# Altium footprint library 杂项库.PcbLib: 585 footprints (part 24 of 37)
Each footprint in its own frame and in the unit in brackets; x right, y up, seen from the top. Pads: shape width x height; smd on the part's side, far side on the other; paste and mask are expansions set on the pad; w line width, h text height; cw(c..) or ccw(c..) is an arc to the next point about the centre after c.
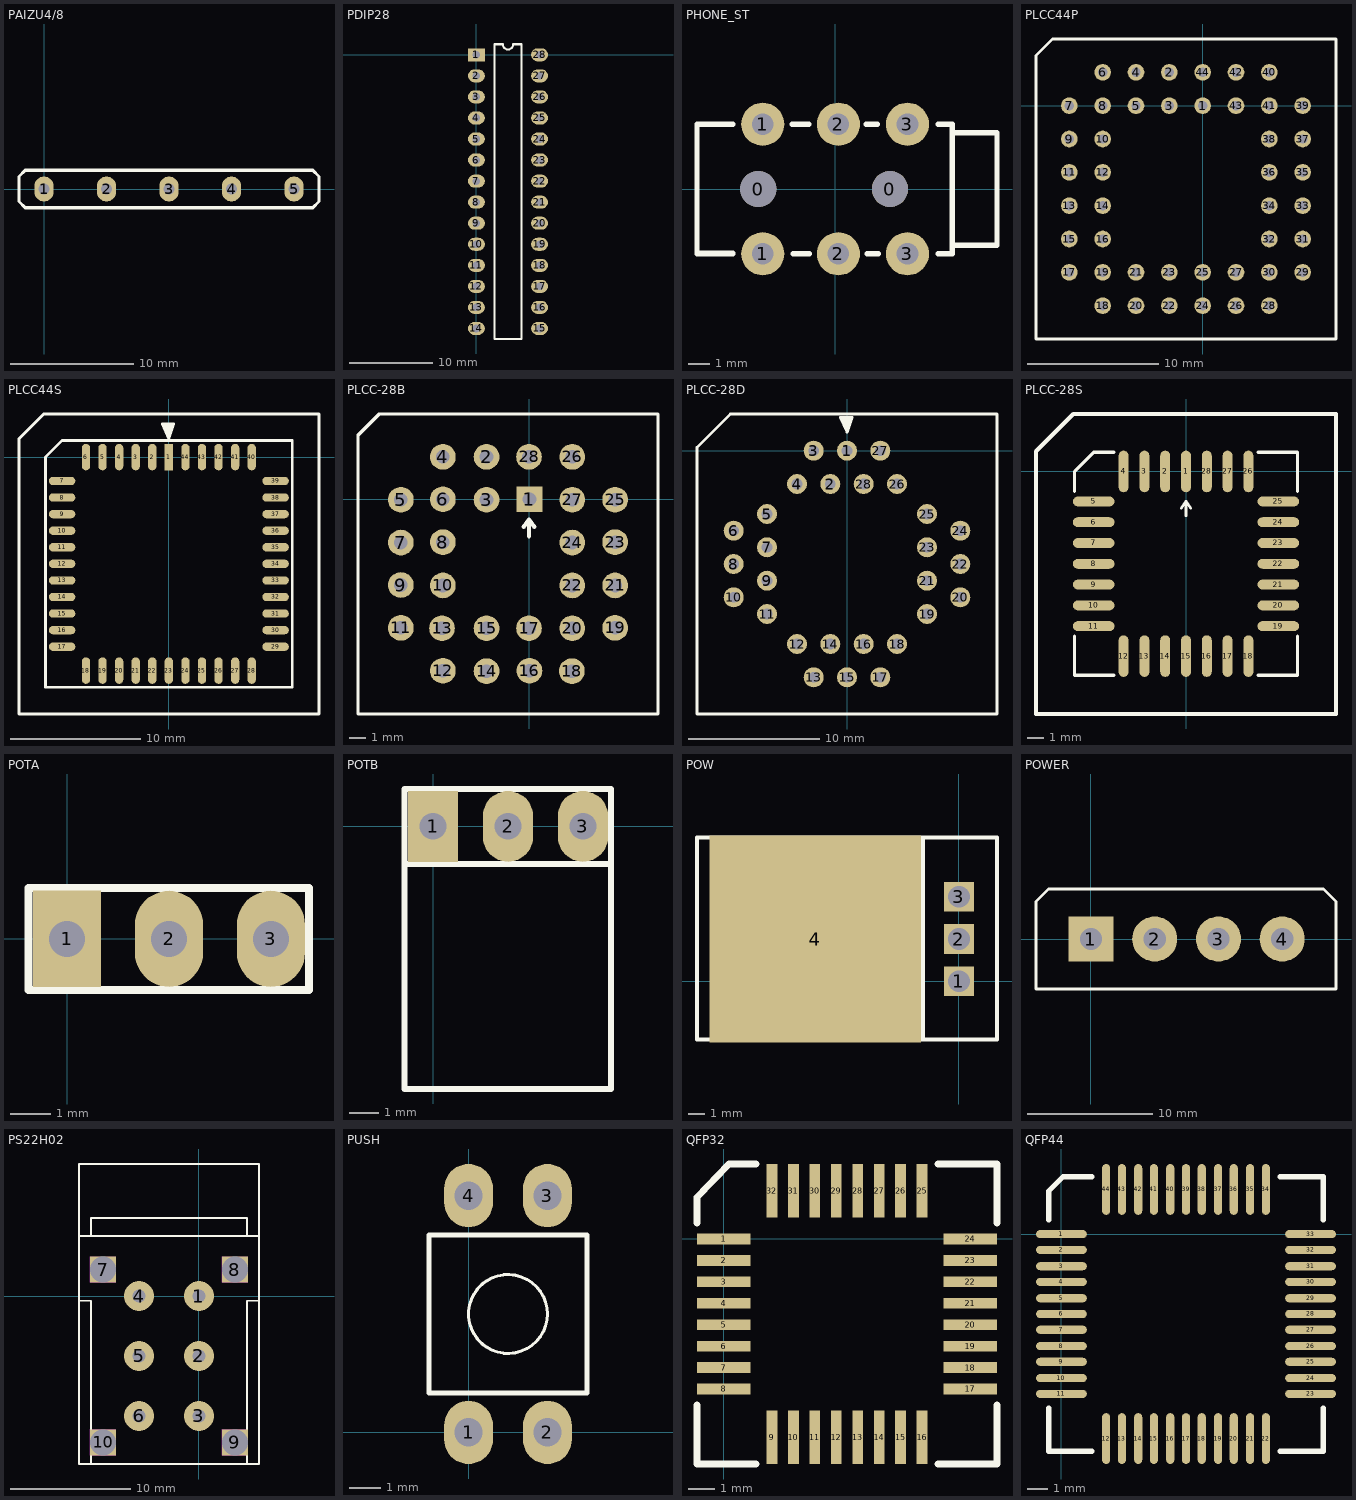
[diagram p23: the footprints below, top view; thin cyan lines are the x and y axes]

## PAIZU4/8 [mil]
pads (5):
  oval 62x80 hole 36: 1(0,0) 2(200,0) 3(400,0) 4(600,0) 5(800,0)
Top Overlay:
  lines w10: -80,-40 -80,40 -60,60 -40,60 740,60 860,60 880,40 880,-40 860,-60 740,-60 -60,-60 -80,-40

## PDIP28 [mil]
pads (28):
  rect 80x62 hole 36: 1(0,0)
  oval 80x62 hole 36: 2(0,-100) 3(0,-200) 4(0,-300) 5(0,-400) 6(0,-500) 7(0,-600) 8(0,-700) 9(0,-800) 10(0,-900) 11(0,-1000) 12(0,-1100) 13(0,-1200) 14(0,-1300) 15(300,-1300) 16(300,-1200) 17(300,-1100) 18(300,-1000) 19(300,-900) 20(300,-800) 21(300,-700) 22(300,-600) 23(300,-500) 24(300,-400) 25(300,-300) 26(300,-200) 27(300,-100) 28(300,0)
Top Overlay:
  lines w10: 85,-1350 85,50 125,50 ccw(c150,50) 175,50 215,50 215,-1350 85,-1350

## PHONE_ST [mm]
pads (8):
  round 1.676 hole 1.676: 0(-3.556,0) 0(2.54,0)
  round 2 hole 1: 1(-3.35,-3) 1(-3.35,3) 2(0.15,-3) 2(0.15,3) 3(3.35,-3) 3(3.35,3)
Top Overlay:
  lines w0.254: -6.393,-2.969 -4.742,-2.969 ; -4.742,-3.007 -6.393,-3.007 -6.393,3 -4.742,3 ; -1.986,3 -1.224,3 ; -1.948,-3.007 -1.186,-3.007 ; 1.443,3 1.951,3 ; 1.481,-3.007 1.989,-3.007 ; 4.783,-3.007 5.33,-3.007 ; 4.783,3 5.418,3 5.418,-3.007 ; 5.418,-2.6 7.493,-2.6 7.493,2.6 5.418,2.6

## PLCC44P [mil]
pads (44):
  round 50 hole 28: 1(0,0) 2(-100,100) 3(-100,0) 4(-200,100) 5(-200,0) 6(-300,100) 7(-400,0) 8(-300,0) 9(-400,-100) 10(-300,-100) 11(-400,-200) 12(-300,-200) 13(-400,-300) 14(-300,-300) 15(-400,-400) 16(-300,-400) 17(-400,-500) 18(-300,-600) 19(-300,-500) 20(-200,-600) 21(-200,-500) 22(-100,-600) 23(-100,-500) 24(0,-600) 25(0,-500) 26(100,-600) 27(100,-500) 28(200,-600) 29(300,-500) 30(200,-500) 31(300,-400) 32(200,-400) 33(300,-300) 34(200,-300) 35(300,-200) 36(200,-200) 37(300,-100) 38(200,-100) 39(300,0) 40(200,100) 41(200,0) 42(100,100) 43(100,0) 44(0,100)
Top Overlay:
  lines w8: -500,-700 400,-700 400,200 -450,200 -500,150 -500,-700

## PLCC44S [mil]
pads (44):
  rect 25x80 smd: 1(0,0)
  oval 25x80 smd: 2(-50,0) 3(-100,0) 4(-150,0) 5(-200,0) 6(-250,0) 18(-250,-644) 19(-200,-644) 20(-150,-644) 21(-100,-644) 22(-50,-644) 23(0,-644) 24(50,-644) 25(100,-644) 26(150,-644) 27(200,-644) 28(250,-644) 40(250,0) 41(200,0) 42(150,0) 43(100,0) 44(50,0)
  oval 80x25 smd: 7(-322,-72) 8(-322,-122) 9(-322,-172) 10(-322,-222) 11(-322,-272) 12(-322,-322) 13(-322,-372) 14(-322,-422) 15(-322,-472) 16(-322,-522) 17(-322,-572) 29(322,-572) 30(322,-522) 31(322,-472) 32(322,-422) 33(322,-372) 34(322,-322) 35(322,-272) 36(322,-222) 37(322,-172) 38(322,-122) 39(322,-72)
Top Overlay:
  lines w8: -15,100 0,70 ; -10,100 0,80 5,100 ; 0,100 0,70 ; 10,100 0,70 ; -372,-694 -372,0 -322,50 372,50 372,-694 -372,-694 ; -20,100 15,100 0,55 -20,100
  lines w10: -452,-775 453,-775 453,130 -377,130 -452,55 -452,-775

## PLCC-28B [mil]
pads (28):
  rect 60x60 hole 32: 1(0,0)
  round 60 hole 32: 2(-100,99) 3(-100,-1) 4(-202,99) 5(-300,-1) 6(-202,0) 7(-300,-101) 8(-202,-100) 9(-300,-200) 10(-202,-201) 11(-300,-300) 12(-202,-400) 13(-204,-301) 14(-100,-401) 15(-100,-301) 16(0,-400) 17(-1,-301) 18(99,-401) 19(200,-300) 20(100,-301) 21(200,-201) 22(100,-201) 23(200,-100) 24(100,-101) 25(200,-1) 26(100,99) 27(100,-1) 28(-1,99)
Top Overlay:
  lines w7.87: -400,-501 -400,149 -350,199 300,199 300,-501 -400,-501
  lines w10: -13,-64 -1,-48 ; -1,-86 -1,-48 ; 11,-64 -1,-48

## PLCC-28D [mil]
pads (28):
  round 60 hole 32: 1(0,0) 2(-50,-100) 3(-100,0) 4(-150,-100) 5(-240,-190) 6(-340,-240) 7(-240,-290) 8(-340,-340) 9(-240,-390) 10(-340,-440) 11(-240,-490) 12(-150,-580) 13(-100,-680) 14(-50,-580) 15(0,-680) 16(50,-580) 17(100,-680) 18(150,-580) 19(240,-490) 20(340,-440) 21(240,-390) 22(340,-340) 23(240,-290) 24(340,-240) 25(240,-190) 26(150,-100) 27(100,0) 28(50,-100)
Top Overlay:
  lines w8: -15,100 0,70 ; -10,100 0,80 5,100 ; 0,100 0,70 ; 10,100 0,70 ; -450,-790 -450,10 -350,110 450,110 450,-790 -450,-790 ; -20,100 15,100 0,55 -20,100

## PLCC-28S [mm]
pads (28):
  oval 0.6x2.5 smd: 1(0,0) 2(-1.25,0) 3(-2.5,0) 4(-3.75,0) 12(-3.75,-11.1) 13(-2.5,-11.1) 14(-1.25,-11.1) 15(0,-11.1) 16(1.25,-11.1) 17(2.5,-11.1) 18(3.75,-11.1) 26(3.75,0) 27(2.5,0) 28(1.25,0)
  oval 2.5x0.6 smd: 5(-5.55,-1.8) 6(-5.55,-3.05) 7(-5.55,-4.3) 8(-5.55,-5.55) 9(-5.55,-6.8) 10(-5.55,-8.05) 11(-5.55,-9.3) 19(5.55,-9.3) 20(5.55,-8.05) 21(5.55,-6.8) 22(5.55,-5.55) 23(5.55,-4.3) 24(5.55,-3.05) 25(5.55,-1.8)
Top Overlay:
  lines w0.154: -0.279,-2.21 0,-1.778 ; 0,-2.667 0,-1.778 ; 0.279,-2.21 0,-1.778
  lines w0.2: -6.7,-9.9 -6.7,-12.25 -4.35,-12.25 ; -6.7,-1.2 -6.7,0 -5.55,1.15 -4.35,1.15 ; 4.35,-12.25 6.7,-12.25 6.7,-9.9 ; 4.35,1.15 6.7,1.15 6.7,-1.2
  lines w0.254: -9.017,-14.58 9.017,-14.58 9.017,3.454 -6.782,3.454 -9.017,1.219 -9.017,-14.58

## POTA [mm]
pads (3):
  rect 1.7x2.4 hole 0.9: 1(0,0)
  oval 1.7x2.4 hole 0.9: 2(2.54,0) 3(5.08,0)
Top Overlay:
  lines w0.2: -0.965,-1.274 6.035,-1.274 6.035,1.266 -0.965,1.266 -0.965,-1.274

## POTB [mm]
pads (3):
  rect 1.7x2.4 hole 0.9: 1(0,0)
  oval 1.7x2.4 hole 0.9: 2(2.54,0) 3(5.08,0)
Top Overlay:
  lines w0.2: -0.965,-1.274 -0.965,1.266 6.035,1.266 6.035,-1.274 ; -0.965,-1.274 6.035,-1.274 ; -0.965,-1.274 -0.965,-3.814 -0.965,-6.354 -0.965,-8.894 6.035,-8.894 6.035,-6.354 6.035,-3.814 6.035,-1.274

## POW [mm]
pads (4):
  rect 1.8x1.8 hole 1.3: 1(0,0) 2(0,2.54) 3(0,5.08)
  rect 12.7x12.446 smd: 4(-8.636,2.54)
Top Overlay:
  lines w0.254: -2.159,-3.505 -2.159,8.636 ; -15.748,-3.505 -15.748,8.636 2.286,8.636 2.286,-3.505 -15.748,-3.505

## POWER [mm]
pads (4):
  rect 3.6x3.6 hole 1.778: 1(0,0)
  round 3.6 hole 1.778: 2(5.1,0) 3(10.2,0) 4(15.3,0)
Top Overlay:
  lines w0.254: -4.4,-4 19.6,-4 19.6,3 18.6,4 -2.4,4 -3.4,4 -4.4,3 -4.4,-4

## PS22H02 [mm]
pads (10):
  round 2.5 hole 1.05: 1(0,0) 2(0,-5) 3(0,-10) 4(-5,0) 5(-5,-5) 6(-5,-10)
  rect 2.15x2.15 hole 2.15: 7(-8,2.2) 8(3,2.2) 9(3,-12.2) 10(-8,-12.2)
Top Overlay:
  lines w0.15: -10,-0.4 -9,-0.4 -9,-14 ; -10,5 5,5 ; -9,5 -9,6.5 4,6.5 4,5 ; 4,-14 4,-0.4 5,-0.4 ; -10,-14 -10,11 5,11 5,-14 -10,-14
Keep-Out Layer:
  lines w0.05: -9.075,-13.275 -6.925,-13.275 -6.925,-11.125 -9.075,-11.125 -9.075,-13.275 ; -9.075,1.125 -6.925,1.125 -6.925,3.275 -9.075,3.275 -9.075,1.125 ; 1.925,-13.275 1.925,-11.125 4.075,-11.125 4.075,-13.275 1.925,-13.275 ; 1.925,1.125 4.075,1.125 4.075,3.275 1.925,3.275 1.925,1.125

## PUSH [mil]
pads (4):
  oval 62x80 hole 36: 1(0,0) 2(100,0) 3(100,300) 4(0,300)
Top Overlay:
  circle w3.94: c50,150 r50
  lines w5.91: -50,50 150,50 150,150 150,250 -50,250 -50,150 -50,50

## QFP32 [mm]
pads (32):
  rect 2x0.4 all layers, no hole: 1(0,0) 2(0,-0.8) 3(0,-1.6) 4(0,-2.4) 5(0,-3.2) 6(0,-4) 7(0,-4.8) 8(0,-5.6) 17(9.2,-5.6) 18(9.2,-4.8) 19(9.2,-4) 20(9.2,-3.2) 21(9.2,-2.4) 22(9.2,-1.6) 23(9.2,-0.8) 24(9.2,0)
  rect 0.4x2 all layers, no hole: 9(1.8,-7.4) 10(2.6,-7.4) 11(3.4,-7.4) 12(4.2,-7.4) 13(5,-7.4) 14(5.8,-7.4) 15(6.6,-7.4) 16(7.4,-7.4) 25(7.4,1.8) 26(6.6,1.8) 27(5.8,1.8) 28(5,1.8) 29(4.2,1.8) 30(3.4,1.8) 31(2.6,1.8) 32(1.8,1.8)
Top Overlay:
  lines w0.254: -1,-6.2 -1,-8.4 1.2,-8.4 ; -1,0.6 -1,1.556 0.19,2.8 1.2,2.8 ; 8,-8.4 10.2,-8.4 10.2,-6.2 ; 8,2.8 10.2,2.8 10.2,0.6

## QFP44 [mil]
pads (44):
  oval 100x16 smd: 1(0,0) 2(0,-31) 3(0,-63) 4(0,-94) 5(0,-126) 6(0,-157) 7(0,-188) 8(0,-220) 9(0,-251) 10(0,-283) 11(0,-314) 23(490,-314) 24(490,-283) 25(490,-251) 26(490,-220) 27(490,-188) 28(490,-157) 29(490,-126) 30(490,-94) 31(490,-63) 32(490,-31) 33(490,0)
  oval 16x100 smd: 12(88,-402) 13(119,-402) 14(151,-402) 15(182,-402) 16(214,-402) 17(245,-402) 18(276,-402) 19(308,-402) 20(339,-402) 21(371,-402) 22(402,-402) 34(402,88) 35(371,88) 36(339,88) 37(308,88) 38(276,88) 39(245,88) 40(214,88) 41(182,88) 42(151,88) 43(119,88) 44(88,88)
Top Overlay:
  lines w10: -25,-342 -25,-427 60,-427 ; -25,28 -25,85 3,113 60,113 ; 430,-427 515,-427 515,-342 ; 430,113 515,113 515,28